# EAGLE library part 8* (library micro-philips)
CMOS single-chip 8-bit Microcontroller 80C31/32 pin compatible
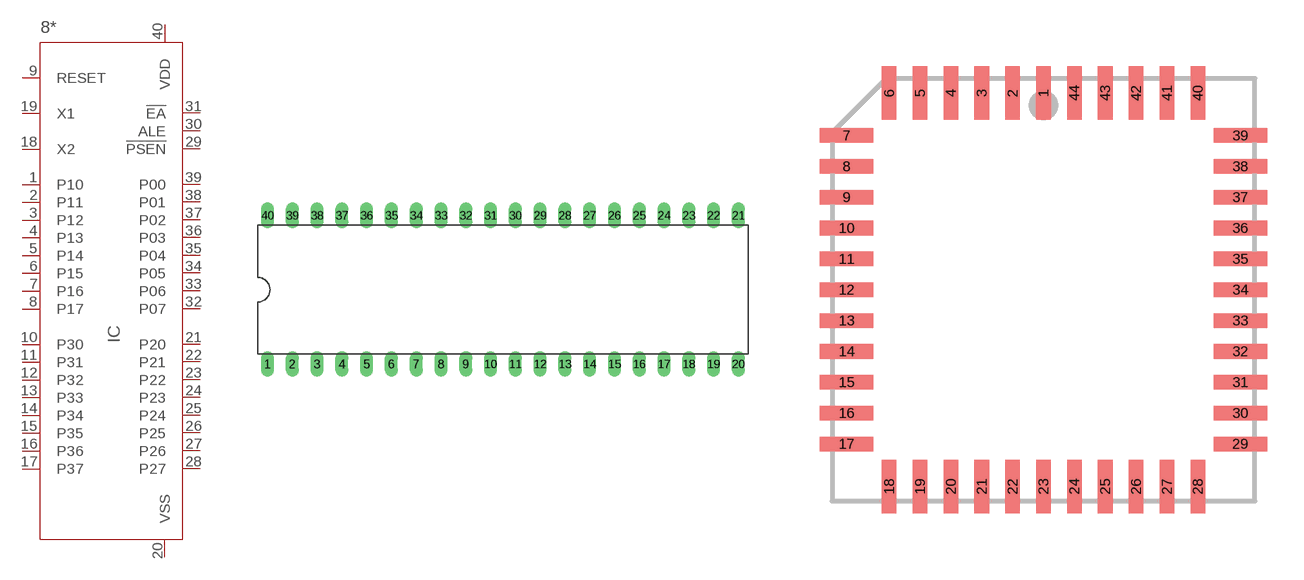
[diagram p25: symbol with the pads of DIL40; footprints DIL40, PLCC44S]

Designator prefix IC

## 80C31SBPN (MF: FARNELL; MPN: P80C31SBPN; OC_FARNELL: 120509; OC_NEWARK: 67C9971), 80C31SFPN (MF: FARNELL; MPN: P80C31SBPN; OC_FARNELL: 120509; OC_NEWARK: 67C9971), 80C32SBPN (MF: FARNELL; MPN: P80C32SBPN; OC_FARNELL: 121071; OC_NEWARK: 67C9973), 80C32SFPN (MF: FARNELL; MPN: P80C32SBPN; OC_FARNELL: 121071; OC_NEWARK: 67C9973), 80C32UBPN (OC_FARNELL: unknown; OC_NEWARK: unknown), 80C32UFPN (OC_FARNELL: unknown; OC_NEWARK: unknown), 80C652PN (OC_FARNELL: unknown; OC_NEWARK: unknown), 83C652PN (OC_FARNELL: unknown; OC_NEWARK: unknown)  [DIL40]
1  P10
2  P11
3  P12
4  P13
5  P14
6  P15
7  P16
8  P17
9  RESET
10  P30
11  P31
12  P32
13  P33
14  P34
15  P35
16  P36
17  P37
18  X2  out
19  X1  in
20  VSS  pwr
21  P20
22  P21
23  P22
24  P23
25  P24
26  P25
27  P26
28  P27
29  !PSEN  out
30  ALE  out
31  !EA  in
32  P07
33  P06
34  P05
35  P04
36  P03
37  P02
38  P01
39  P00
40  VDD  pwr

## 80C31SBAA (MPN: P80C31SBAA,512; OC_FARNELL: 1831226; OC_NEWARK: 70R8431), 80C31SFAA (OC_FARNELL: unknown; OC_NEWARK: unknown), 80C32SBAA (MPN: P80C32SBAA,512; OC_FARNELL: 1831229; OC_NEWARK: 70R8434), 80C32SFAA (OC_FARNELL: 1831229; OC_NEWARK: unknown), 80C32UBAA (MPN: P80C32UBAA; OC_FARNELL: 1201265; OC_NEWARK: 24M6583), 80C32UFAA (MPN: P80C32UFAA,512; OC_FARNELL: unknown; OC_NEWARK: 70R8437)  [PLCC44S]
2  P10
3  P11
4  P12
5  P13
6  P14
7  P15
8  P16
9  P17
10  RESET
11  P30
13  P31
14  P32
15  P33
16  P34
17  P35
18  P36
19  P37
20  X2  out
21  X1  in
22  VSS  pwr
24  P20
25  P21
26  P22
27  P23
28  P24
29  P25
30  P26
31  P27
32  !PSEN  out
33  ALE  out
35  !EA  in
36  P07
37  P06
38  P05
39  P04
40  P03
41  P02
42  P01
43  P00
44  VDD  pwr

## 80C31SBBB (MPN: P80C31SBBB,557; OC_FARNELL: unknown; OC_NEWARK: 70R8432), 80C31SFBB (OC_FARNELL: unknown; OC_NEWARK: unknown), 80C32SBBB (OC_FARNELL: unknown; OC_NEWARK: unknown), 80C32SFBB (OC_FARNELL: unknown; OC_NEWARK: unknown), 80C32UBBB (OC_FARNELL: unknown; OC_NEWARK: unknown), 80C32UFBB (MPN: P80C32UFBB,557; OC_FARNELL: unknown; OC_NEWARK: 70R8438)  [QFP44_SOT307-2]
1  P15
2  P16
3  P17
4  RESET
5  P30
7  P31
8  P32
9  P33
10  P34
11  P35
12  P36
13  P37
14  X2  out
15  X1  in
16  VSS  pwr
18  P20
19  P21
20  P22
21  P23
22  P24
23  P25
24  P26
25  P27
26  !PSEN  out
27  ALE  out
29  !EA  in
30  P07
31  P06
32  P05
33  P04
34  P03
35  P02
36  P01
37  P00
38  VDD  pwr
40  P10
41  P11
42  P12
43  P13
44  P14

## Footprint DIL40 (pad centres in mm)
Dual In Line
drill 0.813 long: 1 -24.13,-7.62; 2 -21.59,-7.62; 3 -19.05,-7.62; 4 -16.51,-7.62; 5 -13.97,-7.62; 6 -11.43,-7.62; 7 -8.89,-7.62; 8 -6.35,-7.62; 9 -3.81,-7.62; 10 -1.27,-7.62; 11 1.27,-7.62; 12 3.81,-7.62; 13 6.35,-7.62; 14 8.89,-7.62; 15 11.43,-7.62; 16 13.97,-7.62; 17 16.51,-7.62; 18 19.05,-7.62; 19 21.59,-7.62; 20 24.13,-7.62; 21 24.13,7.62; 22 21.59,7.62; 23 19.05,7.62; 24 16.51,7.62; 25 13.97,7.62; 26 11.43,7.62; 27 8.89,7.62; 28 6.35,7.62; 29 3.81,7.62; 30 1.27,7.62; 31 -1.27,7.62; 32 -3.81,7.62; 33 -6.35,7.62; 34 -8.89,7.62; 35 -11.43,7.62; 36 -13.97,7.62; 37 -16.51,7.62; 38 -19.05,7.62; 39 -21.59,7.62; 40 -24.13,7.62

## Footprint PLCC44S (pad centres in mm)
PLASTIC LEADED CHIP CARRIER square
smd 0.6 x 2.2: 1 0,8.1; 2 -1.27,8.1; 3 -2.54,8.1; 4 -3.81,8.1; 5 -5.08,8.1; 6 -6.35,8.1; 18 -6.35,-8.1; 19 -5.08,-8.1; 20 -3.81,-8.1; 21 -2.54,-8.1; 22 -1.27,-8.1; 23 0,-8.1; 24 1.27,-8.1; 25 2.54,-8.1; 26 3.81,-8.1; 27 5.08,-8.1; 28 6.35,-8.1; 40 6.35,8.1; 41 5.08,8.1; 42 3.81,8.1; 43 2.54,8.1; 44 1.27,8.1
smd 2.2 x 0.6: 7 -8.1,6.35; 8 -8.1,5.08; 9 -8.1,3.81; 10 -8.1,2.54; 11 -8.1,1.27; 12 -8.1,0; 13 -8.1,-1.27; 14 -8.1,-2.54; 15 -8.1,-3.81; 16 -8.1,-5.08; 17 -8.1,-6.35; 29 8.1,-6.35; 30 8.1,-5.08; 31 8.1,-3.81; 32 8.1,-2.54; 33 8.1,-1.27; 34 8.1,0; 35 8.1,1.27; 36 8.1,2.54; 37 8.1,3.81; 38 8.1,5.08; 39 8.1,6.35

## Footprint QFP44_SOT307-2 (pad centres in mm)
Plastic Quad Flat Package SOT307-2 44 leads (lead length 1.3 mm); body 10 x 10 x 1.75 mm SOT307-2 source: http://www.semiconductors.philips.com/ LQFP-MSQFP-QFP-SQFP-TQFP-REFLOW.pdf
smd 0.5 x 1.8: 1 -4,-6; 2 -3.2,-6; 3 -2.4,-6; 4 -1.6,-6; 5 -0.8,-6; 6 0,-6; 7 0.8,-6; 8 1.6,-6; 9 2.4,-6; 10 3.2,-6; 11 4,-6; 23 4,6; 24 3.2,6; 25 2.4,6; 26 1.6,6; 27 0.8,6; 28 0,6; 29 -0.8,6; 30 -1.6,6; 31 -2.4,6; 32 -3.2,6; 33 -4,6
smd 1.8 x 0.5: 12 6,-4; 13 6,-3.2; 14 6,-2.4; 15 6,-1.6; 16 6,-0.8; 17 6,0; 18 6,0.8; 19 6,1.6; 20 6,2.4; 21 6,3.2; 22 6,4; 34 -6,4; 35 -6,3.2; 36 -6,2.4; 37 -6,1.6; 38 -6,0.8; 39 -6,0; 40 -6,-0.8; 41 -6,-1.6; 42 -6,-2.4; 43 -6,-3.2; 44 -6,-4